# Altium schematic symbol library CRA2512-FZ-R050ELF.SchLib: 1 symbol
Pins are listed as number, name and electrical type; pins without a type are passive.

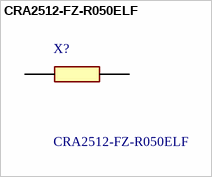
[diagram p0: symbol CRA2512-FZ-R050ELF]

## CRA2512-FZ-R050ELF
designator X?
Current Sense Chip Resistor, 3w, R050 Bourns CRA Series High Power Surface Mount Resistor 2512 Case 50m +/-1% 3W +/-75ppm/C; Geometry.Height: 0.9mm; Manufacturer_Name: Bourns; Manufacturer_Part_Number: CRA2512-FZ-R050ELF; Mouser Part Number: 652-CRA2512FZ-R50ELF; Mouser Price/Stock: https://www.mouser.co.uk/ProductDetail/Bourns/CRA2512-FZ-R050ELF?qs=y%2FafN2TeCup4WcOFvohA0Q%3D%3D; Arrow Part Number: CRA2512-FZ-R050ELF; Arrow Price/Stock: https://www.arrow.com/en/products/cra2512-fz-r050elf/bourns?utm_currency=USD&region=nac; Datasheet Link: http://www.bourns.com/docs/Product-Datasheets/CRA.pdf
footprint RESC6434X90N
pins: 1, 2